# Altium footprint library Q's常用端子.PcbLib: 44 footprints (part 2 of 3)
Each footprint in its own frame and in the unit in brackets; x right, y up, seen from the top. Pads: shape width x height; smd on the part's side, far side on the other; paste and mask are expansions set on the pad; w line width, h text height; cw(c..) or ccw(c..) is an arc to the next point about the centre after c.
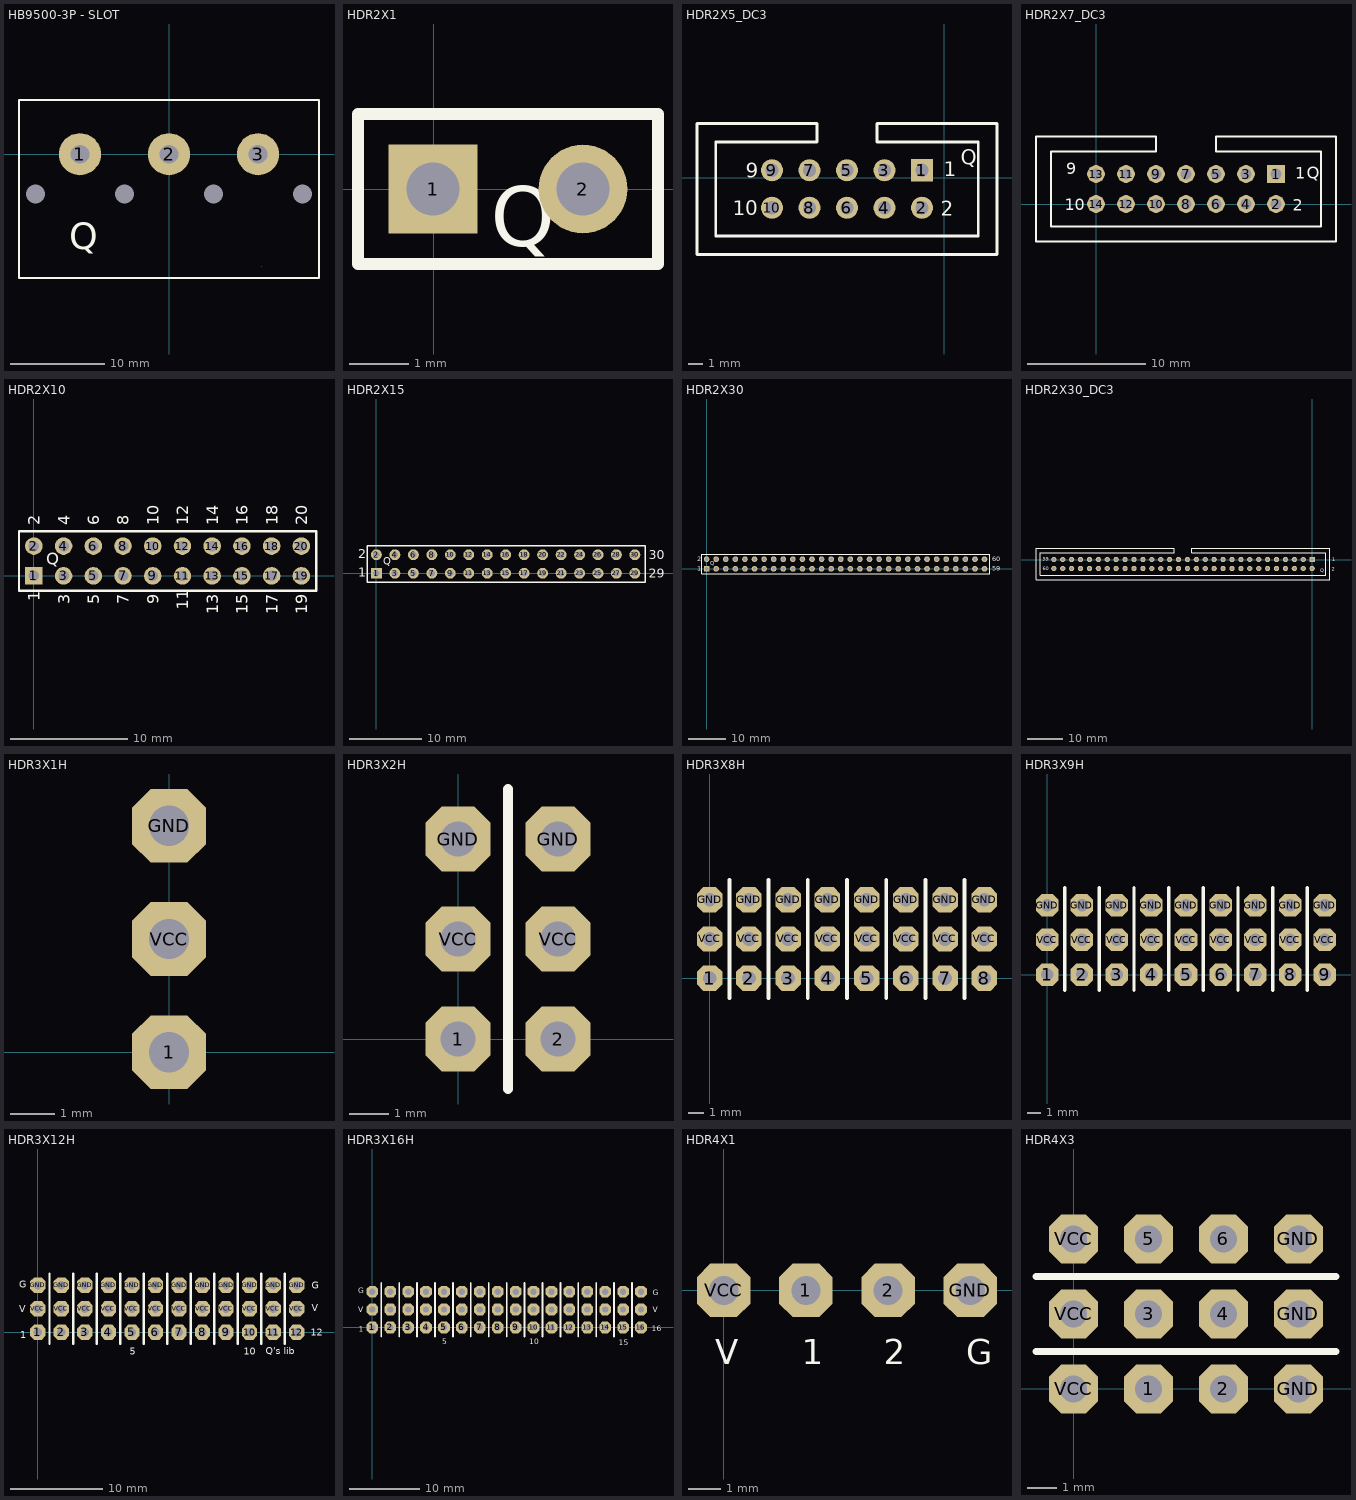
[diagram p1: the footprints below, top view; thin cyan lines are the x and y axes]

## HB9500-3P - SLOT [mm]
pads (7):
  round 4.5 hole 2: 1(-9.5,0) 2(0,0) 3(9.5,0)
  round 0 hole 2: N(-14.25,-4.242) N(-4.75,-4.242) N(4.75,-4.242) N(14.25,-4.242)
Top Overlay:
  lines w0.001: 9.83,-11.989 9.855,-12.014
  lines w0.203: -16.002,-13.208 -16.002,5.791 16,5.791 16,-13.208 -16.002,-13.208
  text "Q" at -10.668,-10.16 h2.82
3D body: height 13.5, standoff 0, extent 3.971,-13.208 5.588,3.557
3D body: height 13.5, standoff 0, extent -5.554,-13.208 -3.937,3.557
3D body: height 23, standoff 0, extent -15.875,-13.207 15.875,5.715
3D body: height 7, standoff 0, extent -13.716,-13.207 13.843,3.556
3D body: height 10, standoff 0, extent -12.7,-5.587 -6.35,1.523
3D body: height 10, standoff 0, extent -3.2,-5.587 3.15,1.523
3D body: height 12.5, standoff 0, extent -2.769,-4.776 2.719,0.712
3D body: height 10, standoff 0, extent 6.3,-5.587 12.65,1.523
3D body: height 12.5, standoff 0, extent 6.731,-4.776 12.219,0.712
3D body: height 12.5, standoff 0, extent -12.269,-4.776 -6.781,0.712
3D body: height 6, standoff 0, extent -10.973,-10.44 -8.534,-7.061

## HDR2X1 [mm]
pads (2):
  rect 1.5x1.5 hole 0.9: 1(-0.011,0.007)
  round 1.5 hole 0.9: 2(2.529,0.007)
Top Overlay:
  lines w0.2: -1.281,-1.263 3.799,-1.263 3.799,1.277 -1.281,1.277 -1.281,-1.263
  text "Q" at 0.965,-0.965 h1.02
3D body: height 2, standoff 0, extent -1.27,-1.27 3.81,1.27
3D body: height 10, standoff 0, extent -0.5,-0.5 0.5,0.5
3D body: height 10, standoff 0, extent 2.04,-0.5 3.04,0.5
3D body: height 2.5, standoff 0, extent 0.843,-1.072 1.733,0.173

## HDR2X5_DC3 [mm]
pads (10):
  rect 1.5x1.5 hole 0.9: 1(-1.497,0.504)
  round 1.5 hole 0.9: 2(-1.497,-2.036) 3(-4.037,0.504) 4(-4.037,-2.036) 5(-6.577,0.504) 6(-6.577,-2.036) 7(-9.117,0.504) 8(-9.117,-2.036) 9(-11.657,0.504) 10(-11.657,-2.036)
Top Overlay:
  lines w0.2: -8.609,2.409 -8.609,3.679 -16.737,3.679 -16.737,-5.211 3.583,-5.211 3.583,3.679 -4.545,3.679 -4.545,2.409 ; -8.6,2.409 -15.467,2.409 -15.467,-3.941 2.313,-3.941 2.313,2.41 -4.55,2.41
  text "Q" at 1.143,0.864 h1.02
  text "2" at -0.215,-2.595 h1
  text "1" at -0.015,0.105 h1
  text "9" at -13.435,-0.004 h1
  text "10" at -14.324,-2.544 h1
3D body: height 2.5, standoff 0, extent 1.021,0.756 1.911,2.002
3D body: height 10, standoff 0, extent -16.737,-5.211 3.582,3.678
3D body: height 2, standoff 0, extent -16.74,-5.215 3.58,3.675
3D body: height 10, standoff 0, extent -2,0 -1,1
3D body: height 10, standoff 0, extent -4.54,0 -3.54,1
3D body: height 10, standoff 0, extent -7.08,0 -6.08,1
3D body: height 10, standoff 0, extent -9.62,0 -8.62,1
3D body: height 10, standoff 0, extent -12.16,0 -11.16,1
3D body: height 10, standoff 0, extent -12.16,-2.54 -11.16,-1.54
3D body: height 10, standoff 0, extent -9.62,-2.54 -8.62,-1.54
3D body: height 10, standoff 0, extent -7.08,-2.54 -6.08,-1.54
3D body: height 10, standoff 0, extent -4.54,-2.54 -3.54,-1.54
3D body: height 10, standoff 0, extent -2,-2.54 -1,-1.54

## HDR2X7_DC3 [mm]
pads (14):
  rect 1.5x1.5 hole 0.9: 1(15.24,2.54)
  round 1.5 hole 0.9: 2(15.24,0) 3(12.7,2.54) 4(12.7,0) 5(10.16,2.54) 6(10.16,0) 7(7.62,2.54) 8(7.62,0) 9(5.08,2.54) 10(5.08,0) 11(2.54,2.54) 12(2.54,0) 13(0,2.54) 14(0,0)
Top Overlay:
  lines w0.2: -5.08,-3.175 15.24,-3.175 20.32,-3.175 20.32,5.715 10.16,5.715 10.16,4.446 19.05,4.446 19.05,-1.905 13.97,-1.905 -3.81,-1.905 -3.81,4.445 5.08,4.445 5.08,5.715 -5.08,5.715 -5.08,-3.175
  text "Q" at 17.856,2.134 h1.02
  text "10" at -2.667,-0.508 h1
  text "9" at -2.54,2.54 h1
  text "1" at 16.874,2.142 h1
  text "2" at 16.674,-0.558 h1
3D body: height 2.5, standoff 0, extent 17.734,2.026 18.624,3.272
3D body: height 10, standoff 0, extent -0.503,-0.504 0.497,0.496
3D body: height 10, standoff 0, extent 2.037,2.036 3.037,3.036
3D body: height 10, standoff 0, extent 2.037,-0.504 3.037,0.496
3D body: height 10, standoff 0, extent 14.737,-0.504 15.737,0.496
3D body: height 10, standoff 0, extent 12.197,-0.504 13.197,0.496
3D body: height 10, standoff 0, extent 9.657,-0.504 10.657,0.496
3D body: height 10, standoff 0, extent 7.117,-0.504 8.117,0.496
3D body: height 10, standoff 0, extent 4.577,-0.504 5.577,0.496
3D body: height 10, standoff 0, extent 4.577,2.036 5.577,3.036
3D body: height 10, standoff 0, extent 7.117,2.036 8.117,3.036
3D body: height 10, standoff 0, extent 9.657,2.036 10.657,3.036
3D body: height 10, standoff 0, extent 12.197,2.036 13.197,3.036
3D body: height 10, standoff 0, extent 14.737,2.036 15.737,3.036
3D body: height 2, standoff 0, extent -5.083,-3.179 20.32,5.711
3D body: height 10, standoff 0, extent -5.079,-3.174 20.32,5.714
3D body: height 10, standoff 0, extent -0.503,2.036 0.497,3.036

## HDR2X10 [mm]
pads (20):
  rect 1.5x1.5 hole 0.9: 1(-0.011,0.007)
  round 1.5 hole 0.9: 2(-0.011,2.547) 3(2.529,0.007) 4(2.529,2.547) 5(5.069,0.007) 6(5.069,2.547) 7(7.609,0.007) 8(7.609,2.547) 9(10.149,0.007) 10(10.149,2.547) 11(12.689,0.007) 12(12.689,2.547) 13(15.229,0.007) 14(15.229,2.547) 15(17.769,0.007) 16(17.769,2.547) 17(20.309,0.007) 18(20.309,2.547) 19(22.849,0.007) 20(22.849,2.547)
Top Overlay:
  lines w0.2: -1.281,-1.263 -1.281,3.817 24.119,3.817 24.119,-1.263 -1.281,-1.263
  text "20" at 23.357,4.325 h1
  text "19" at 23.357,-3.295 h1
  text "1" at 0.497,-2.152 h1
  text "2" at 0.497,4.325 h1
  text "16" at 18.277,4.325 h1
  text "12" at 13.197,4.325 h1
  text "6" at 5.577,4.325 h1
  text "15" at 18.277,-3.295 h1
  text "11" at 13.197,-2.914 h1
  text "5" at 5.577,-2.406 h1
  text "18" at 20.817,4.325 h1
  text "17" at 20.817,-3.295 h1
  text "14" at 15.737,4.325 h1
  text "13" at 15.737,-3.295 h1
  text "10" at 10.657,4.325 h1
  text "9" at 10.657,-2.406 h1
  text "8" at 8.117,4.325 h1
  text "7" at 8.117,-2.406 h1
  text "4" at 3.037,4.325 h1
  text "3" at 3.037,-2.406 h1
  text "Q" at 1.041,0.94 h1.02
3D body: height 3, standoff 0, extent -1.27,-1.27 24.13,3.81
3D body: height 10, standoff 0, extent -0.5,2.04 0.5,3.04
3D body: height 10, standoff 0, extent 2.04,2.04 3.04,3.04
3D body: height 10, standoff 0, extent 4.58,2.04 5.58,3.04
3D body: height 10, standoff 0, extent 7.12,2.04 8.12,3.04
3D body: height 10, standoff 0, extent 9.66,2.04 10.66,3.04
3D body: height 10, standoff 0, extent 12.2,2.04 13.2,3.04
3D body: height 10, standoff 0, extent 14.74,2.04 15.74,3.04
3D body: height 10, standoff 0, extent 17.28,2.04 18.28,3.04
3D body: height 10, standoff 0, extent 19.82,2.04 20.82,3.04
3D body: height 10, standoff 0, extent 22.36,2.04 23.36,3.04
3D body: height 10, standoff 0, extent 22.36,-0.5 23.36,0.5
3D body: height 10, standoff 0, extent 19.82,-0.5 20.82,0.5
3D body: height 10, standoff 0, extent 17.28,-0.5 18.28,0.5
3D body: height 10, standoff 0, extent 14.74,-0.5 15.74,0.5
3D body: height 10, standoff 0, extent 12.2,-0.5 13.2,0.5
3D body: height 10, standoff 0, extent 9.66,-0.5 10.66,0.5
3D body: height 10, standoff 0, extent 7.12,-0.5 8.12,0.5
3D body: height 10, standoff 0, extent 4.58,-0.5 5.58,0.5
3D body: height 10, standoff 0, extent 2.04,-0.5 3.04,0.5
3D body: height 10, standoff 0, extent -0.5,-0.5 0.5,0.5
3D body: height 3.5, standoff 0, extent 0.919,0.833 1.809,2.078

## HDR2X15 [mm] "Connector; Header; 30x2 Position"
pads (30):
  rect 1.5x1.5 hole 0.9: 1(0,0)
  round 1.5 hole 0.9: 2(0,2.54) 3(2.54,0) 4(2.54,2.54) 5(5.08,0) 6(5.08,2.54) 7(7.62,0) 8(7.62,2.54) 9(10.16,0) 10(10.16,2.54) 11(12.7,0) 12(12.7,2.54) 13(15.24,0) 14(15.24,2.54) 15(17.78,0) 16(17.78,2.54) 17(20.32,0) 18(20.32,2.54) 19(22.86,0) 20(22.86,2.54) 21(25.4,0) 22(25.4,2.54) 23(27.94,0) 24(27.94,2.54) 25(30.48,0) 26(30.48,2.54) 27(33.02,0) 28(33.02,2.54) 29(35.56,0) 30(35.56,2.54)
Top Overlay:
  lines w0.2: -1.27,-1.27 -1.27,3.81 36.957,3.81 36.957,-1.27 -1.27,-1.27
  text "2" at -2.54,2.032 h1.27
  text "1" at -2.54,-0.508 h1.27
  text "29" at 37.465,-0.635 h1.27
  text "30" at 37.465,1.905 h1.27
  text "Q" at 0.914,1.143 h1.02
3D body: height 10, standoff 0, extent 2.04,-0.5 3.04,0.5
3D body: height 10, standoff 0, extent 2.04,2.032 3.04,3.032
3D body: height 10, standoff 0, extent 35.06,-0.5 36.06,0.5
3D body: height 10, standoff 0, extent 35.06,2.032 36.06,3.032
3D body: height 10, standoff 0, extent 32.52,-0.5 33.52,0.5
3D body: height 10, standoff 0, extent 32.52,2.032 33.52,3.032
3D body: height 10, standoff 0, extent 29.98,-0.5 30.98,0.5
3D body: height 10, standoff 0, extent 29.98,2.032 30.98,3.032
3D body: height 10, standoff 0, extent 27.44,-0.5 28.44,0.5
3D body: height 10, standoff 0, extent 27.44,2.032 28.44,3.032
3D body: height 10, standoff 0, extent 24.9,-0.5 25.9,0.5
3D body: height 10, standoff 0, extent 24.9,2.032 25.9,3.032
3D body: height 10, standoff 0, extent 22.36,-0.5 23.36,0.5
3D body: height 10, standoff 0, extent 22.36,2.032 23.36,3.032
3D body: height 10, standoff 0, extent 19.82,-0.5 20.82,0.5
3D body: height 10, standoff 0, extent 19.82,2.032 20.82,3.032
3D body: height 10, standoff 0, extent 17.28,-0.5 18.28,0.5
3D body: height 10, standoff 0, extent 17.28,2.032 18.28,3.032
3D body: height 10, standoff 0, extent 14.74,-0.5 15.74,0.5
3D body: height 10, standoff 0, extent 14.74,2.032 15.74,3.032
3D body: height 10, standoff 0, extent 12.2,-0.5 13.2,0.5
3D body: height 10, standoff 0, extent 12.2,2.032 13.2,3.032
3D body: height 10, standoff 0, extent 9.66,-0.5 10.66,0.5
3D body: height 10, standoff 0, extent 9.66,2.032 10.66,3.032
3D body: height 10, standoff 0, extent 7.12,-0.5 8.12,0.5
3D body: height 10, standoff 0, extent 7.12,2.032 8.12,3.032
3D body: height 10, standoff 0, extent 4.58,-0.5 5.58,0.5
3D body: height 10, standoff 0, extent 4.58,2.032 5.58,3.032
3D body: height 3, standoff 0.3, extent -1.269,-1.269 36.83,3.809
3D body: height 10, standoff 0, extent -0.5,2.032 0.5,3.032
3D body: height 10, standoff 0, extent -0.5,-0.5 0.5,0.5
3D body: height 3.5, standoff 0, extent 0.792,1.036 1.682,2.281

## HDR2X30 [mm] "Connector; Header; 30x2 Position"
pads (60):
  rect 1.5x1.5 hole 0.9: 1(0,0)
  round 1.5 hole 0.9: 2(0,2.54) 3(2.54,0) 4(2.54,2.54) 5(5.08,0) 6(5.08,2.54) 7(7.62,0) 8(7.62,2.54) 9(10.16,0) 10(10.16,2.54) 11(12.7,0) 12(12.7,2.54) 13(15.24,0) 14(15.24,2.54) 15(17.78,0) 16(17.78,2.54) 17(20.32,0) 18(20.32,2.54) 19(22.86,0) 20(22.86,2.54) 21(25.4,0) 22(25.4,2.54) 23(27.94,0) 24(27.94,2.54) 25(30.48,0) 26(30.48,2.54) 27(33.02,0) 28(33.02,2.54) 29(35.56,0) 30(35.56,2.54) 31(38.1,0) 32(38.1,2.54) 33(40.64,0) 34(40.64,2.54) 35(43.18,0) 36(43.18,2.54) 37(45.72,0) 38(45.72,2.54) 39(48.26,0) 40(48.26,2.54) 41(50.8,0) 42(50.8,2.54) 43(53.34,0) 44(53.34,2.54) 45(55.88,0) 46(55.88,2.54) 47(58.42,0) 48(58.42,2.54) 49(60.96,0) 50(60.96,2.54) 51(63.5,0) 52(63.5,2.54) 53(66.04,0) 54(66.04,2.54) 55(68.58,0) 56(68.58,2.54) 57(71.12,0) 58(71.12,2.54) 59(73.66,0) 60(73.66,2.54)
Top Overlay:
  lines w0.2: -1.27,-1.27 75.06,-1.27 75.06,3.81 -1.27,3.81 -1.27,-1.27
  text "60" at 75.692,2.032 h1.27
  text "59" at 75.692,-0.508 h1.27
  text "1" at -2.54,-0.508 h1.27
  text "2" at -2.54,2.032 h1.27
  text "Q" at 1.016,0.889 h1.02
3D body: height 10, standoff 0, extent -0.5,-0.5 0.5,0.5
3D body: height 10, standoff 0, extent -0.5,2.032 0.5,3.032
3D body: height 3, standoff 0.3, extent -1.269,-1.269 75.059,3.809
3D body: height 10, standoff 0, extent 2.04,2.032 3.04,3.032
3D body: height 10, standoff 0, extent 2.04,-0.5 3.04,0.5
3D body: height 10, standoff 0, extent 4.58,2.032 5.58,3.032
3D body: height 10, standoff 0, extent 4.58,-0.5 5.58,0.5
3D body: height 10, standoff 0, extent 7.12,2.032 8.12,3.032
3D body: height 10, standoff 0, extent 7.12,-0.5 8.12,0.5
3D body: height 10, standoff 0, extent 9.66,2.032 10.66,3.032
3D body: height 10, standoff 0, extent 9.66,-0.5 10.66,0.5
3D body: height 10, standoff 0, extent 12.2,2.032 13.2,3.032
3D body: height 10, standoff 0, extent 12.2,-0.5 13.2,0.5
3D body: height 10, standoff 0, extent 14.74,2.032 15.74,3.032
3D body: height 10, standoff 0, extent 14.74,-0.5 15.74,0.5
3D body: height 10, standoff 0, extent 17.28,2.032 18.28,3.032
3D body: height 10, standoff 0, extent 17.28,-0.5 18.28,0.5
3D body: height 10, standoff 0, extent 19.82,2.032 20.82,3.032
3D body: height 10, standoff 0, extent 19.82,-0.5 20.82,0.5
3D body: height 10, standoff 0, extent 22.36,2.032 23.36,3.032
3D body: height 10, standoff 0, extent 22.36,-0.5 23.36,0.5
3D body: height 10, standoff 0, extent 24.9,2.032 25.9,3.032
3D body: height 10, standoff 0, extent 24.9,-0.5 25.9,0.5
3D body: height 10, standoff 0, extent 27.44,2.032 28.44,3.032
3D body: height 10, standoff 0, extent 27.44,-0.5 28.44,0.5
3D body: height 10, standoff 0, extent 29.98,2.032 30.98,3.032
3D body: height 10, standoff 0, extent 29.98,-0.5 30.98,0.5
3D body: height 10, standoff 0, extent 32.52,2.032 33.52,3.032
3D body: height 10, standoff 0, extent 32.52,-0.5 33.52,0.5
3D body: height 10, standoff 0, extent 35.06,2.032 36.06,3.032
3D body: height 10, standoff 0, extent 35.06,-0.5 36.06,0.5
3D body: height 10, standoff 0, extent 37.6,2.032 38.6,3.032
3D body: height 10, standoff 0, extent 37.6,-0.5 38.6,0.5
3D body: height 10, standoff 0, extent 40.14,2.032 41.14,3.032
3D body: height 10, standoff 0, extent 40.14,-0.5 41.14,0.5
3D body: height 10, standoff 0, extent 42.68,2.032 43.68,3.032
3D body: height 10, standoff 0, extent 42.68,-0.5 43.68,0.5
3D body: height 10, standoff 0, extent 45.22,2.032 46.22,3.032
3D body: height 10, standoff 0, extent 45.22,-0.5 46.22,0.5
3D body: height 10, standoff 0, extent 47.76,2.032 48.76,3.032
3D body: height 10, standoff 0, extent 47.76,-0.5 48.76,0.5
3D body: height 10, standoff 0, extent 50.3,2.032 51.3,3.032
3D body: height 10, standoff 0, extent 50.3,-0.5 51.3,0.5
3D body: height 10, standoff 0, extent 52.84,2.032 53.84,3.032
3D body: height 10, standoff 0, extent 52.84,-0.5 53.84,0.5
3D body: height 10, standoff 0, extent 55.38,2.032 56.38,3.032
3D body: height 10, standoff 0, extent 55.38,-0.5 56.38,0.5
3D body: height 10, standoff 0, extent 57.92,2.032 58.92,3.032
3D body: height 10, standoff 0, extent 57.92,-0.5 58.92,0.5
3D body: height 10, standoff 0, extent 60.46,2.032 61.46,3.032
3D body: height 10, standoff 0, extent 60.46,-0.5 61.46,0.5
3D body: height 10, standoff 0, extent 63,2.032 64,3.032
3D body: height 10, standoff 0, extent 63,-0.5 64,0.5
3D body: height 10, standoff 0, extent 65.54,2.032 66.54,3.032
3D body: height 10, standoff 0, extent 65.54,-0.5 66.54,0.5
3D body: height 10, standoff 0, extent 68.08,2.032 69.08,3.032
3D body: height 10, standoff 0, extent 68.08,-0.5 69.08,0.5
3D body: height 10, standoff 0, extent 70.62,2.032 71.62,3.032
3D body: height 10, standoff 0, extent 70.62,-0.5 71.62,0.5
3D body: height 10, standoff 0, extent 73.16,2.032 74.16,3.032
3D body: height 10, standoff 0, extent 73.16,-0.5 74.16,0.5
3D body: height 3.5, standoff 0, extent 0.894,0.782 1.784,2.027

## HDR2X30_DC3 [mm]
pads (60):
  rect 1.5x1.5 hole 0.9: 1(0,0)
  round 1.5 hole 0.9: 2(0,-2.54) 3(-2.54,0) 4(-2.54,-2.54) 5(-5.08,0) 6(-5.08,-2.54) 7(-7.62,0) 8(-7.62,-2.54) 9(-10.16,0) 10(-10.16,-2.54) 11(-12.7,0) 12(-12.7,-2.54) 13(-15.24,0) 14(-15.24,-2.54) 15(-17.78,0) 16(-17.78,-2.54) 17(-20.32,0) 18(-20.32,-2.54) 19(-22.86,0) 20(-22.86,-2.54) 21(-25.4,0) 22(-25.4,-2.54) 23(-27.94,0) 24(-27.94,-2.54) 25(-30.48,0) 26(-30.48,-2.54) 27(-33.02,0) 28(-33.02,-2.54) 29(-35.56,0) 30(-35.56,-2.54) 31(-38.1,0) 32(-38.1,-2.54) 33(-40.64,0) 34(-40.64,-2.54) 35(-43.18,0) 36(-43.18,-2.54) 37(-45.72,0) 38(-45.72,-2.54) 39(-48.26,0) 40(-48.26,-2.54) 41(-50.8,0) 42(-50.8,-2.54) 43(-53.34,0) 44(-53.34,-2.54) 45(-55.88,0) 46(-55.88,-2.54) 47(-58.42,0) 48(-58.42,-2.54) 49(-60.96,0) 50(-60.96,-2.54) 51(-63.5,0) 52(-63.5,-2.54) 53(-66.04,0) 54(-66.04,-2.54) 55(-68.58,0) 56(-68.58,-2.54) 57(-71.12,0) 58(-71.12,-2.54) 59(-73.66,0) 60(-73.66,-2.54)
Top Overlay:
  lines w0.2: -78.74,-5.715 -78.74,3.175 -39.37,3.175 -39.37,1.905 -77.47,1.905 -77.47,-4.445 -1.27,-4.445 3.81,-4.445 3.81,1.906 -34.29,1.906 -34.29,3.175 5.08,3.175 5.08,-5.715 0,-5.715 -78.74,-5.715
  text "Q" at 2.362,-3.683 h1.02
  text "2" at 5.6,-3.2 h1
  text "1" at 5.8,-0.5 h1
  text "59" at -76.835,-0.381 h1
  text "60" at -76.835,-3.048 h1
3D body: height 2.5, standoff 0, extent 2.24,-3.79 3.13,-2.545
3D body: height 10, standoff 0, extent -74.163,-3.044 -73.163,-2.044
3D body: height 10, standoff 0, extent -71.623,-3.044 -70.623,-2.044
3D body: height 10, standoff 0, extent -69.083,-3.044 -68.083,-2.044
3D body: height 10, standoff 0, extent -66.543,-3.044 -65.543,-2.044
3D body: height 10, standoff 0, extent -64.003,-3.044 -63.003,-2.044
3D body: height 10, standoff 0, extent -61.463,-3.044 -60.463,-2.044
3D body: height 10, standoff 0, extent -58.923,-3.044 -57.923,-2.044
3D body: height 10, standoff 0, extent -56.383,-3.044 -55.383,-2.044
3D body: height 10, standoff 0, extent -53.843,-3.044 -52.843,-2.044
3D body: height 10, standoff 0, extent -51.303,-3.044 -50.303,-2.044
3D body: height 10, standoff 0, extent -48.763,-3.044 -47.763,-2.044
3D body: height 10, standoff 0, extent -46.223,-3.044 -45.223,-2.044
3D body: height 10, standoff 0, extent -43.683,-3.044 -42.683,-2.044
3D body: height 10, standoff 0, extent -41.143,-3.044 -40.143,-2.044
3D body: height 10, standoff 0, extent -38.603,-3.044 -37.603,-2.044
3D body: height 10, standoff 0, extent -36.063,-3.044 -35.063,-2.044
3D body: height 10, standoff 0, extent -33.523,-3.044 -32.523,-2.044
3D body: height 10, standoff 0, extent -30.983,-3.044 -29.983,-2.044
3D body: height 10, standoff 0, extent -28.443,-3.044 -27.443,-2.044
3D body: height 10, standoff 0, extent -25.903,-3.044 -24.903,-2.044
3D body: height 10, standoff 0, extent -23.363,-3.044 -22.363,-2.044
3D body: height 10, standoff 0, extent -20.823,-3.044 -19.823,-2.044
3D body: height 10, standoff 0, extent -18.283,-3.044 -17.283,-2.044
3D body: height 10, standoff 0, extent -78.74,-5.714 5.08,3.174
3D body: height 2, standoff 0, extent -78.74,-5.719 5.08,3.171
3D body: height 10, standoff 0, extent -0.503,-0.504 0.497,0.496
3D body: height 10, standoff 0, extent -3.043,-0.504 -2.043,0.496
3D body: height 10, standoff 0, extent -5.583,-0.504 -4.583,0.496
3D body: height 10, standoff 0, extent -8.123,-0.504 -7.123,0.496
3D body: height 10, standoff 0, extent -10.663,-0.504 -9.663,0.496
3D body: height 10, standoff 0, extent -10.663,-3.044 -9.663,-2.044
3D body: height 10, standoff 0, extent -8.123,-3.044 -7.123,-2.044
3D body: height 10, standoff 0, extent -5.583,-3.044 -4.583,-2.044
3D body: height 10, standoff 0, extent -3.043,-3.044 -2.043,-2.044
3D body: height 10, standoff 0, extent -0.503,-3.044 0.497,-2.044
3D body: height 10, standoff 0, extent -13.203,-3.044 -12.203,-2.044
3D body: height 10, standoff 0, extent -13.203,-0.504 -12.203,0.496
3D body: height 10, standoff 0, extent -15.743,-3.044 -14.743,-2.044
3D body: height 10, standoff 0, extent -15.743,-0.504 -14.743,0.496
3D body: height 10, standoff 0, extent -18.283,-0.504 -17.283,0.496
3D body: height 10, standoff 0, extent -20.823,-0.504 -19.823,0.496
3D body: height 10, standoff 0, extent -23.363,-0.504 -22.363,0.496
3D body: height 10, standoff 0, extent -25.903,-0.504 -24.903,0.496
3D body: height 10, standoff 0, extent -28.443,-0.504 -27.443,0.496
3D body: height 10, standoff 0, extent -30.983,-0.504 -29.983,0.496
3D body: height 10, standoff 0, extent -33.523,-0.504 -32.523,0.496
3D body: height 10, standoff 0, extent -36.063,-0.504 -35.063,0.496
3D body: height 10, standoff 0, extent -38.603,-0.504 -37.603,0.496
3D body: height 10, standoff 0, extent -41.143,-0.504 -40.143,0.496
3D body: height 10, standoff 0, extent -43.683,-0.504 -42.683,0.496
3D body: height 10, standoff 0, extent -46.223,-0.504 -45.223,0.496
3D body: height 10, standoff 0, extent -48.763,-0.504 -47.763,0.496
3D body: height 10, standoff 0, extent -51.303,-0.504 -50.303,0.496
3D body: height 10, standoff 0, extent -53.843,-0.504 -52.843,0.496
3D body: height 10, standoff 0, extent -56.383,-0.504 -55.383,0.496
3D body: height 10, standoff 0, extent -58.923,-0.504 -57.923,0.496
3D body: height 10, standoff 0, extent -61.463,-0.504 -60.463,0.496
3D body: height 10, standoff 0, extent -64.003,-0.504 -63.003,0.496
3D body: height 10, standoff 0, extent -66.543,-0.504 -65.543,0.496
3D body: height 10, standoff 0, extent -69.083,-0.504 -68.083,0.496
3D body: height 10, standoff 0, extent -71.623,-0.504 -70.623,0.496
3D body: height 10, standoff 0, extent -74.163,-0.504 -73.163,0.496

## HDR3X1H [mil]
pads (3):
  oct 65x65 hole 35.43: 1(0,0) GND(0,200) VCC(0,100)
3D body: height 393.7, standoff 0, extent -19.24,80.04 20.13,119.41
3D body: height 118.11, standoff 0, extent -50,-50 50,250
3D body: height 393.7, standoff 0, extent -19.24,-19.96 20.13,19.41
3D body: height 393.7, standoff 0, extent -19.24,180.04 20.13,219.41

## HDR3X2H [mil]
pads (6):
  oct 65x65 hole 35.43: 1(0,0) 2(100,0) GND(0,200) GND(100,200) VCC(0,100) VCC(100,100)
Top Overlay:
  lines w9.84: 50,-50 50,250
3D body: height 393.7, standoff 0, extent -19.24,80.04 20.13,119.41
3D body: height 118.11, standoff 0, extent -50,-50 150,250
3D body: height 393.7, standoff 0, extent -19.24,-19.96 20.13,19.41
3D body: height 393.7, standoff 0, extent -19.24,180.04 20.13,219.41
3D body: height 393.7, standoff 0, extent 80.76,80.04 120.13,119.41
3D body: height 393.7, standoff 0, extent 80.76,180.04 120.13,219.41
3D body: height 393.7, standoff 0, extent 80.76,-19.96 120.13,19.41

## HDR3X8H [mil]
pads (24):
  oct 65x65 hole 35.43: 1(0,0) 2(100,0) 3(200,0) 4(300,0) 5(400,0) 6(500,0) 7(600,0) 8(700,0) GND(0,200) GND(100,200) GND(200,200) GND(300,200) GND(400,200) GND(500,200) GND(600,200) GND(700,200) VCC(0,100) VCC(100,100) VCC(200,100) VCC(300,100) VCC(400,100) VCC(500,100) VCC(600,100) VCC(700,100)
Top Overlay:
  lines w9.84: 50,-50 50,250 ; 150,-50 150,250 ; 250,-50 250,250 ; 350,-50 350,250 ; 450,-50 450,250 ; 550,-50 550,250 ; 650,-50 650,250
3D body: height 393.7, standoff 0, extent -19.24,80.04 20.13,119.41
3D body: height 118.11, standoff 0, extent -50,-50 750,250
3D body: height 393.7, standoff 0, extent -19.24,-19.96 20.13,19.41
3D body: height 393.7, standoff 0, extent -19.24,180.04 20.13,219.41
3D body: height 393.7, standoff 0, extent 80.76,80.04 120.13,119.41
3D body: height 393.7, standoff 0, extent 80.76,180.04 120.13,219.41
3D body: height 393.7, standoff 0, extent 80.76,-19.96 120.13,19.41
3D body: height 393.7, standoff 0, extent 180.76,80.04 220.13,119.41
3D body: height 393.7, standoff 0, extent 180.76,180.04 220.13,219.41
3D body: height 393.7, standoff 0, extent 180.76,-19.96 220.13,19.41
3D body: height 393.7, standoff 0, extent 280.76,80.04 320.13,119.41
3D body: height 393.7, standoff 0, extent 280.76,180.04 320.13,219.41
3D body: height 393.7, standoff 0, extent 280.76,-19.96 320.13,19.41
3D body: height 393.7, standoff 0, extent 380.76,80.04 420.13,119.41
3D body: height 393.7, standoff 0, extent 380.76,180.04 420.13,219.41
3D body: height 393.7, standoff 0, extent 380.76,-19.96 420.13,19.41
3D body: height 393.7, standoff 0, extent 480.76,80.04 520.13,119.41
3D body: height 393.7, standoff 0, extent 480.76,180.04 520.13,219.41
3D body: height 393.7, standoff 0, extent 480.76,-19.96 520.13,19.41
3D body: height 393.7, standoff 0, extent 580.76,80.04 620.13,119.41
3D body: height 393.7, standoff 0, extent 580.76,180.04 620.13,219.41
3D body: height 393.7, standoff 0, extent 580.76,-19.96 620.13,19.41
3D body: height 393.7, standoff 0, extent 680.76,80.04 720.13,119.41
3D body: height 393.7, standoff 0, extent 680.76,180.04 720.13,219.41
3D body: height 393.7, standoff 0, extent 680.76,-19.96 720.13,19.41

## HDR3X9H [mil]
pads (27):
  oct 65x65 hole 35.43: 1(0,0) 2(100,0) 3(200,0) 4(300,0) 5(400,0) 6(500,0) 7(600,0) 8(700,0) 9(800,0) GND(0,200) GND(100,200) GND(200,200) GND(300,200) GND(400,200) GND(500,200) GND(600,200) GND(700,200) GND(800,200) VCC(0,100) VCC(100,100) VCC(200,100) VCC(300,100) VCC(400,100) VCC(500,100) VCC(600,100) VCC(700,100) VCC(800,100)
Top Overlay:
  lines w9.84: 150,-45 150,250 ; 250,-45 250,250 ; 350,-45 350,250 ; 450,-45 450,250 ; 550,-45 550,250 ; 650,-45 650,250 ; 750,-45 750,250 ; 50,-45 50,250 50,-45
3D body: height 393.7, standoff 0, extent 780.76,-19.96 820.13,19.41
3D body: height 393.7, standoff 0, extent 780.76,180.04 820.13,219.41
3D body: height 393.7, standoff 0, extent 780.76,80.04 820.13,119.41
3D body: height 393.7, standoff 0, extent 680.76,-19.96 720.13,19.41
3D body: height 393.7, standoff 0, extent 680.76,180.04 720.13,219.41
3D body: height 393.7, standoff 0, extent 680.76,80.04 720.13,119.41
3D body: height 393.7, standoff 0, extent 580.76,-19.96 620.13,19.41
3D body: height 393.7, standoff 0, extent 580.76,180.04 620.13,219.41
3D body: height 393.7, standoff 0, extent 580.76,80.04 620.13,119.41
3D body: height 393.7, standoff 0, extent 480.76,-19.96 520.13,19.41
3D body: height 393.7, standoff 0, extent 480.76,180.04 520.13,219.41
3D body: height 393.7, standoff 0, extent 480.76,80.04 520.13,119.41
3D body: height 393.7, standoff 0, extent 380.76,-19.96 420.13,19.41
3D body: height 393.7, standoff 0, extent 380.76,180.04 420.13,219.41
3D body: height 393.7, standoff 0, extent 380.76,80.04 420.13,119.41
3D body: height 393.7, standoff 0, extent 280.76,-19.96 320.13,19.41
3D body: height 393.7, standoff 0, extent 280.76,180.04 320.13,219.41
3D body: height 393.7, standoff 0, extent 280.76,80.04 320.13,119.41
3D body: height 393.7, standoff 0, extent 180.76,-19.96 220.13,19.41
3D body: height 393.7, standoff 0, extent 180.76,180.04 220.13,219.41
3D body: height 393.7, standoff 0, extent 180.76,80.04 220.13,119.41
3D body: height 393.7, standoff 0, extent 80.76,-19.96 120.13,19.41
3D body: height 393.7, standoff 0, extent 80.76,180.04 120.13,219.41
3D body: height 393.7, standoff 0, extent 80.76,80.04 120.13,119.41
3D body: height 393.7, standoff 0, extent -19.24,180.04 20.13,219.41
3D body: height 393.7, standoff 0, extent -19.24,-19.96 20.13,19.41
3D body: height 118.11, standoff 0, extent -50,-50 850,250
3D body: height 393.7, standoff 0, extent -19.24,80.04 20.13,119.41

## HDR3X12H [mil]
pads (36):
  oct 65x65 hole 35.43: 1(0,0) 2(100,0) 3(200,0) 4(300,0) 5(400,0) 6(500,0) 7(600,0) 8(700,0) 9(800,0) 10(900,0) 11(1000,0) 12(1100,0) GND(0,200) GND(100,200) GND(200,200) GND(300,200) GND(400,200) GND(500,200) GND(600,200) GND(700,200) GND(800,200) GND(900,200) GND(1000,200) GND(1100,200) VCC(0,100) VCC(100,100) VCC(200,100) VCC(300,100) VCC(400,100) VCC(500,100) VCC(600,100) VCC(700,100) VCC(800,100) VCC(900,100) VCC(1000,100) VCC(1100,100)
Top Overlay:
  lines w9.84: 50,-50 50,250 ; 150,-50 150,250 ; 250,-50 250,250 ; 350,-50 350,250 ; 450,-50 450,250 ; 550,-50 550,250 ; 650,-50 650,250 ; 750,-50 750,250 ; 850,-50 850,250 ; 950,-50 950,250 ; 1050,-50 1050,250
  text "10" at 875,-95 h30
  text "5" at 390,-95 h30
  text "G" at 1165,185 h30
  text "V" at 1165,90 h30
  text "12" at 1160,-15 h30
  text "G" at -80,190 h30
  text "V" at -80,85 h30
  text "1" at -75,-25 h30
  text "Q's lib" at 968.5,-94.49 h30
3D body: height 393.7, standoff 0, extent -19.24,80.04 20.13,119.41
3D body: height 118.11, standoff 0, extent -50,-50 1150,250
3D body: height 393.7, standoff 0, extent -19.24,-19.96 20.13,19.41
3D body: height 393.7, standoff 0, extent -19.24,180.04 20.13,219.41
3D body: height 393.7, standoff 0, extent 80.76,80.04 120.13,119.41
3D body: height 393.7, standoff 0, extent 80.76,180.04 120.13,219.41
3D body: height 393.7, standoff 0, extent 80.76,-19.96 120.13,19.41
3D body: height 393.7, standoff 0, extent 180.76,80.04 220.13,119.41
3D body: height 393.7, standoff 0, extent 180.76,180.04 220.13,219.41
3D body: height 393.7, standoff 0, extent 180.76,-19.96 220.13,19.41
3D body: height 393.7, standoff 0, extent 280.76,80.04 320.13,119.41
3D body: height 393.7, standoff 0, extent 280.76,180.04 320.13,219.41
3D body: height 393.7, standoff 0, extent 280.76,-19.96 320.13,19.41
3D body: height 393.7, standoff 0, extent 380.76,80.04 420.13,119.41
3D body: height 393.7, standoff 0, extent 380.76,180.04 420.13,219.41
3D body: height 393.7, standoff 0, extent 380.76,-19.96 420.13,19.41
3D body: height 393.7, standoff 0, extent 480.76,80.04 520.13,119.41
3D body: height 393.7, standoff 0, extent 480.76,180.04 520.13,219.41
3D body: height 393.7, standoff 0, extent 480.76,-19.96 520.13,19.41
3D body: height 393.7, standoff 0, extent 580.76,80.04 620.13,119.41
3D body: height 393.7, standoff 0, extent 580.76,180.04 620.13,219.41
3D body: height 393.7, standoff 0, extent 580.76,-19.96 620.13,19.41
3D body: height 393.7, standoff 0, extent 680.76,80.04 720.13,119.41
3D body: height 393.7, standoff 0, extent 680.76,180.04 720.13,219.41
3D body: height 393.7, standoff 0, extent 680.76,-19.96 720.13,19.41
3D body: height 393.7, standoff 0, extent 780.76,80.04 820.13,119.41
3D body: height 393.7, standoff 0, extent 780.76,180.04 820.13,219.41
3D body: height 393.7, standoff 0, extent 780.76,-19.96 820.13,19.41
3D body: height 393.7, standoff 0, extent 880.76,80.04 920.13,119.41
3D body: height 393.7, standoff 0, extent 880.76,180.04 920.13,219.41
3D body: height 393.7, standoff 0, extent 880.76,-19.96 920.13,19.41
3D body: height 393.7, standoff 0, extent 980.76,80.04 1020.13,119.41
3D body: height 393.7, standoff 0, extent 980.76,180.04 1020.13,219.41
3D body: height 393.7, standoff 0, extent 980.76,-19.96 1020.13,19.41
3D body: height 393.7, standoff 0, extent 1080.76,80.04 1120.13,119.41
3D body: height 393.7, standoff 0, extent 1080.76,180.04 1120.13,219.41
3D body: height 393.7, standoff 0, extent 1080.76,-19.96 1120.13,19.41

## HDR3X16H [mil]
pads (48):
  oct 65x65 hole 35.43: 1(0,0) 2(100,0) 3(200,0) 4(300,0) 5(400,0) 6(500,0) 7(600,0) 8(700,0) 9(800,0) 10(900,0) 11(1000,0) 12(1100,0) 13(1200,0) 14(1300,0) 15(1400,0) 16(1500,0) GND(0,200) GND(100,200) GND(200,200) GND(300,200) GND(400,200) GND(500,200) GND(600,200) GND(700,200) GND(800,200) GND(900,200) GND(1000,200) GND(1100,200) GND(1200,200) GND(1300,200) GND(1400,200) GND(1500,200) VCC(0,100) VCC(100,100) VCC(200,100) VCC(300,100) VCC(400,100) VCC(500,100) VCC(600,100) VCC(700,100) VCC(800,100) VCC(900,100) VCC(1000,100) VCC(1100,100) VCC(1200,100) VCC(1300,100) VCC(1400,100) VCC(1500,100)
Top Overlay:
  lines w9.84: 50,-50 50,250 ; 150,-50 150,250 ; 250,-50 250,250 ; 350,-50 350,250 ; 450,-50 450,250 ; 550,-50 550,250 ; 650,-50 650,250 ; 750,-50 750,250 ; 850,-50 850,250 ; 950,-50 950,250 ; 1050,-50 1050,250 ; 1150,-50 1150,250 ; 1250,-50 1250,250 ; 1350,-50 1350,250 ; 1450,-50 1450,250
  text "15" at 1375,-100 h30
  text "10" at 875,-95 h30
  text "5" at 390,-95 h30
  text "G" at 1565,180 h30
  text "V" at 1565,85 h30
  text "16" at 1560,-20 h30
  text "G" at -80,190 h30
  text "V" at -80,85 h30
  text "1" at -75,-25 h30
3D body: height 393.7, standoff 0, extent -19.24,80.04 20.13,119.41
3D body: height 118.11, standoff 0, extent -50,-50 1550,250
3D body: height 393.7, standoff 0, extent -19.24,-19.96 20.13,19.41
3D body: height 393.7, standoff 0, extent -19.24,180.04 20.13,219.41
3D body: height 393.7, standoff 0, extent 80.76,80.04 120.13,119.41
3D body: height 393.7, standoff 0, extent 80.76,180.04 120.13,219.41
3D body: height 393.7, standoff 0, extent 80.76,-19.96 120.13,19.41
3D body: height 393.7, standoff 0, extent 180.76,80.04 220.13,119.41
3D body: height 393.7, standoff 0, extent 180.76,180.04 220.13,219.41
3D body: height 393.7, standoff 0, extent 180.76,-19.96 220.13,19.41
3D body: height 393.7, standoff 0, extent 280.76,80.04 320.13,119.41
3D body: height 393.7, standoff 0, extent 280.76,180.04 320.13,219.41
3D body: height 393.7, standoff 0, extent 280.76,-19.96 320.13,19.41
3D body: height 393.7, standoff 0, extent 380.76,80.04 420.13,119.41
3D body: height 393.7, standoff 0, extent 380.76,180.04 420.13,219.41
3D body: height 393.7, standoff 0, extent 380.76,-19.96 420.13,19.41
3D body: height 393.7, standoff 0, extent 480.76,80.04 520.13,119.41
3D body: height 393.7, standoff 0, extent 480.76,180.04 520.13,219.41
3D body: height 393.7, standoff 0, extent 480.76,-19.96 520.13,19.41
3D body: height 393.7, standoff 0, extent 580.76,80.04 620.13,119.41
3D body: height 393.7, standoff 0, extent 580.76,180.04 620.13,219.41
3D body: height 393.7, standoff 0, extent 580.76,-19.96 620.13,19.41
3D body: height 393.7, standoff 0, extent 680.76,80.04 720.13,119.41
3D body: height 393.7, standoff 0, extent 680.76,180.04 720.13,219.41
3D body: height 393.7, standoff 0, extent 680.76,-19.96 720.13,19.41
3D body: height 393.7, standoff 0, extent 780.76,80.04 820.13,119.41
3D body: height 393.7, standoff 0, extent 780.76,180.04 820.13,219.41
3D body: height 393.7, standoff 0, extent 780.76,-19.96 820.13,19.41
3D body: height 393.7, standoff 0, extent 880.76,80.04 920.13,119.41
3D body: height 393.7, standoff 0, extent 880.76,180.04 920.13,219.41
3D body: height 393.7, standoff 0, extent 880.76,-19.96 920.13,19.41
3D body: height 393.7, standoff 0, extent 980.76,80.04 1020.13,119.41
3D body: height 393.7, standoff 0, extent 980.76,180.04 1020.13,219.41
3D body: height 393.7, standoff 0, extent 980.76,-19.96 1020.13,19.41
3D body: height 393.7, standoff 0, extent 1080.76,80.04 1120.13,119.41
3D body: height 393.7, standoff 0, extent 1080.76,180.04 1120.13,219.41
3D body: height 393.7, standoff 0, extent 1080.76,-19.96 1120.13,19.41
3D body: height 393.7, standoff 0, extent 1180.76,80.04 1220.13,119.41
3D body: height 393.7, standoff 0, extent 1180.76,180.04 1220.13,219.41
3D body: height 393.7, standoff 0, extent 1180.76,-19.96 1220.13,19.41
3D body: height 393.7, standoff 0, extent 1280.76,80.04 1320.13,119.41
3D body: height 393.7, standoff 0, extent 1280.76,180.04 1320.13,219.41
3D body: height 393.7, standoff 0, extent 1280.76,-19.96 1320.13,19.41
3D body: height 393.7, standoff 0, extent 1380.76,80.04 1420.13,119.41
3D body: height 393.7, standoff 0, extent 1380.76,180.04 1420.13,219.41
3D body: height 393.7, standoff 0, extent 1380.76,-19.96 1420.13,19.41
3D body: height 393.7, standoff 0, extent 1480.76,80.04 1520.13,119.41
3D body: height 393.7, standoff 0, extent 1480.76,180.04 1520.13,219.41
3D body: height 393.7, standoff 0, extent 1480.76,-19.96 1520.13,19.41

## HDR4X1 [mil]
pads (4):
  oct 65x65 hole 35.43: 1(100,0) 2(200,0) GND(300,0) VCC(0,0)
Top Overlay:
  text "1" at 95,-90 h30
  text "V" at -10,-90 h30
  text "G" at 295,-90 h30
  text "2" at 195,-90 h30
3D body: height 393.7, standoff 0, extent 280.76,-19.96 320.13,19.41
3D body: height 393.7, standoff 0, extent 180.76,-19.96 220.13,19.41
3D body: height 393.7, standoff 0, extent 80.76,-19.96 120.13,19.41
3D body: height 393.7, standoff 0, extent -19.24,-19.96 20.13,19.41
3D body: height 118.11, standoff 0, extent -50,-50 350,50

## HDR4X3 [mil]
pads (12):
  oct 65x65 hole 35.43: 1(100,0) 2(200,0) 3(100,100) 4(200,100) 5(100,200) 6(200,200) GND(300,0) GND(300,100) GND(300,200) VCC(0,0) VCC(0,100) VCC(0,200)
Top Overlay:
  lines w9.84: -50,50 350,50 ; -50,150 350,150
3D body: height 118.11, standoff 0, extent -50,-50 350,250
3D body: height 393.7, standoff 0, extent 280.76,80.04 320.13,119.41
3D body: height 393.7, standoff 0, extent 280.76,180.04 320.13,219.41
3D body: height 393.7, standoff 0, extent 280.76,-19.96 320.13,19.41
3D body: height 393.7, standoff 0, extent -19.24,80.04 20.13,119.41
3D body: height 393.7, standoff 0, extent -19.24,-19.96 20.13,19.41
3D body: height 393.7, standoff 0, extent -19.24,180.04 20.13,219.41
3D body: height 393.7, standoff 0, extent 80.76,80.04 120.13,119.41
3D body: height 393.7, standoff 0, extent 80.76,180.04 120.13,219.41
3D body: height 393.7, standoff 0, extent 80.76,-19.96 120.13,19.41
3D body: height 393.7, standoff 0, extent 180.76,80.04 220.13,119.41
3D body: height 393.7, standoff 0, extent 180.76,180.04 220.13,219.41
3D body: height 393.7, standoff 0, extent 180.76,-19.96 220.13,19.41
3D body: height 393.7, standoff 0, extent 180.76,-19.96 220.13,19.41
3D body: height 393.7, standoff 0, extent 180.76,180.04 220.13,219.41
3D body: height 393.7, standoff 0, extent 180.76,80.04 220.13,119.41
3D body: height 393.7, standoff 0, extent 80.76,180.04 120.13,219.41
3D body: height 393.7, standoff 0, extent 80.76,-19.96 120.13,19.41
3D body: height 393.7, standoff 0, extent 80.76,80.04 120.13,119.41